# Altium footprint library PcbLib12.PcbLib: 1 footprints
Each footprint in its own frame and in the unit in brackets; x right, y up, seen from the top. Pads: shape width x height; smd on the part's side, far side on the other; paste and mask are expansions set on the pad; w line width, h text height; cw(c..) or ccw(c..) is an arc to the next point about the centre after c.
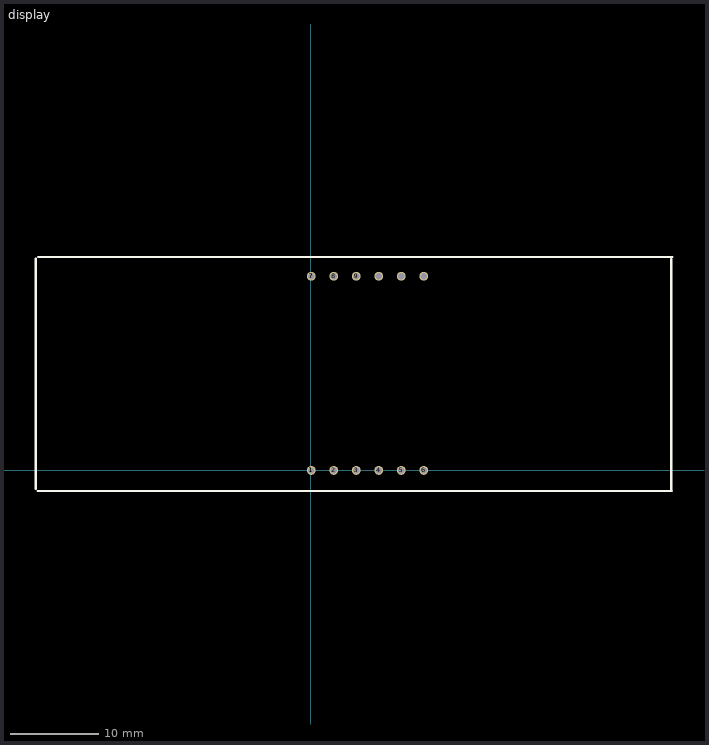
[diagram p0: the footprint, top view; thin cyan lines are the x and y axes]

## display [mm]
pads (15):
  round 1 hole 0.7: 1(0.025,-0.025) 1(0.025,-0.025) 1(0.025,-0.025) 2(2.565,-0.025) 3(5.105,-0.025) 4(7.645,-0.025) 5(10.185,-0.025) 6(12.725,-0.025) 7(0.025,21.875) 7(0.025,21.875) 8(2.565,21.875) 9(5.105,21.875) 10(7.645,21.875) 11(10.185,21.875) 12(12.725,21.875)
Top Overlay:
  lines w0.254: -31.039,-2.134 -31.039,23.876 ; -30.81,-2.362 40.691,-2.362 ; -30.785,24.054 40.742,24.054 ; 40.64,-2.21 40.64,23.825